# EAGLE library part PCF8576 (library pcf8576)
PCF8576
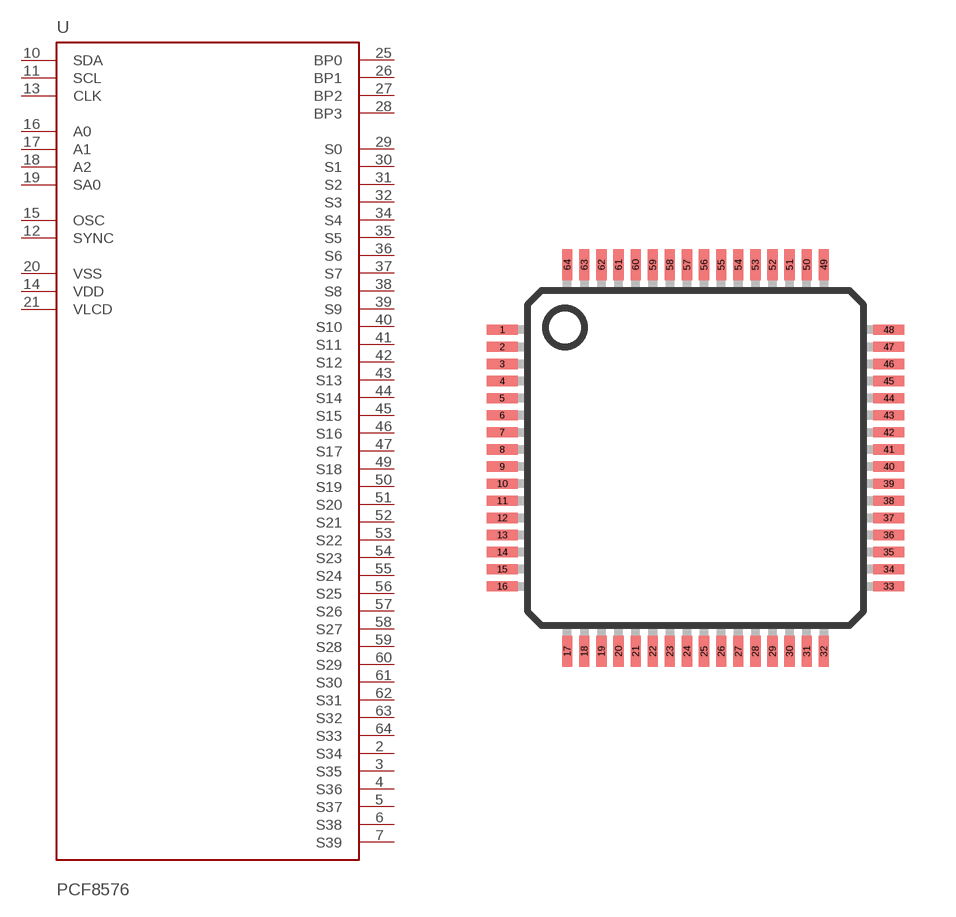
[diagram p0: symbol with the pads of LQFP-ST-64-2; footprint LQFP-ST-64-2]

Designator prefix -

## PCF8576  [LQFP-ST-64-2]
2  S34  out
3  S35  out
4  S36  out
5  S37  out
6  S38  out
7  S39  out
10  SDA
11  SCL  in
12  SYNC
13  CLK
14  VDD  pwr
15  OSC  in
16  A0  in
17  A1  in
18  A2  in
19  SA0  in
20  VSS  pwr
21  VLCD  pwr
25  BP0  out
26  BP1  out
27  BP2  out
28  BP3  out
29  S0  out
30  S1  out
31  S2  out
32  S3  out
34  S4  out
35  S5  out
36  S6  out
37  S7  out
38  S8  out
39  S9  out
40  S10  out
41  S11  out
42  S12  out
43  S13  out
44  S14  out
45  S15  out
46  S16  out
47  S17  out
49  S18  out
50  S19  out
51  S20  out
52  S21  out
53  S22  out
54  S23  out
55  S24  out
56  S25  out
57  S26  out
58  S27  out
59  S28  out
60  S29  out
61  S30  out
62  S31  out
63  S32  out
64  S33  out

## Footprint LQFP-ST-64-2 (pad centres in mm)
64-Lead Low Profile Quad Flat Package [LQFP] (ST-64-2) COMPLIANT TO JEDEC STANDARDS MS-026-BCD Source: http://www.analog.com/UploadedFiles/Data_Sheets/288945048AD7C7019_20_1_2_4_5_6_7_0.pdf
smd 0.9 x 0.3: 1 -5.65,3.75; 2 -5.65,3.25; 3 -5.65,2.75; 4 -5.65,2.25; 5 -5.65,1.75; 6 -5.65,1.25; 7 -5.65,0.75; 8 -5.65,0.25; 9 -5.65,-0.25; 10 -5.65,-0.75; 11 -5.65,-1.25; 12 -5.65,-1.75; 13 -5.65,-2.25; 14 -5.65,-2.75; 15 -5.65,-3.25; 16 -5.65,-3.75; 33 5.65,-3.75; 34 5.65,-3.25; 35 5.65,-2.75; 36 5.65,-2.25; 37 5.65,-1.75; 38 5.65,-1.25; 39 5.65,-0.75; 40 5.65,-0.25; 41 5.65,0.25; 42 5.65,0.75; 43 5.65,1.25; 44 5.65,1.75; 45 5.65,2.25; 46 5.65,2.75; 47 5.65,3.25; 48 5.65,3.75
smd 0.3 x 0.9: 17 -3.75,-5.65; 18 -3.25,-5.65; 19 -2.75,-5.65; 20 -2.25,-5.65; 21 -1.75,-5.65; 22 -1.25,-5.65; 23 -0.75,-5.65; 24 -0.25,-5.65; 25 0.25,-5.65; 26 0.75,-5.65; 27 1.25,-5.65; 28 1.75,-5.65; 29 2.25,-5.65; 30 2.75,-5.65; 31 3.25,-5.65; 32 3.75,-5.65; 49 3.75,5.65; 50 3.25,5.65; 51 2.75,5.65; 52 2.25,5.65; 53 1.75,5.65; 54 1.25,5.65; 55 0.75,5.65; 56 0.25,5.65; 57 -0.25,5.65; 58 -0.75,5.65; 59 -1.25,5.65; 60 -1.75,5.65; 61 -2.25,5.65; 62 -2.75,5.65; 63 -3.25,5.65; 64 -3.75,5.65